# EAGLE library part CRAZYREMOTE_MKL26Z256VLH4 (library CrazyRemote)
16BIT MCU, CORTEX M0+, 48MHZ, 64QFP
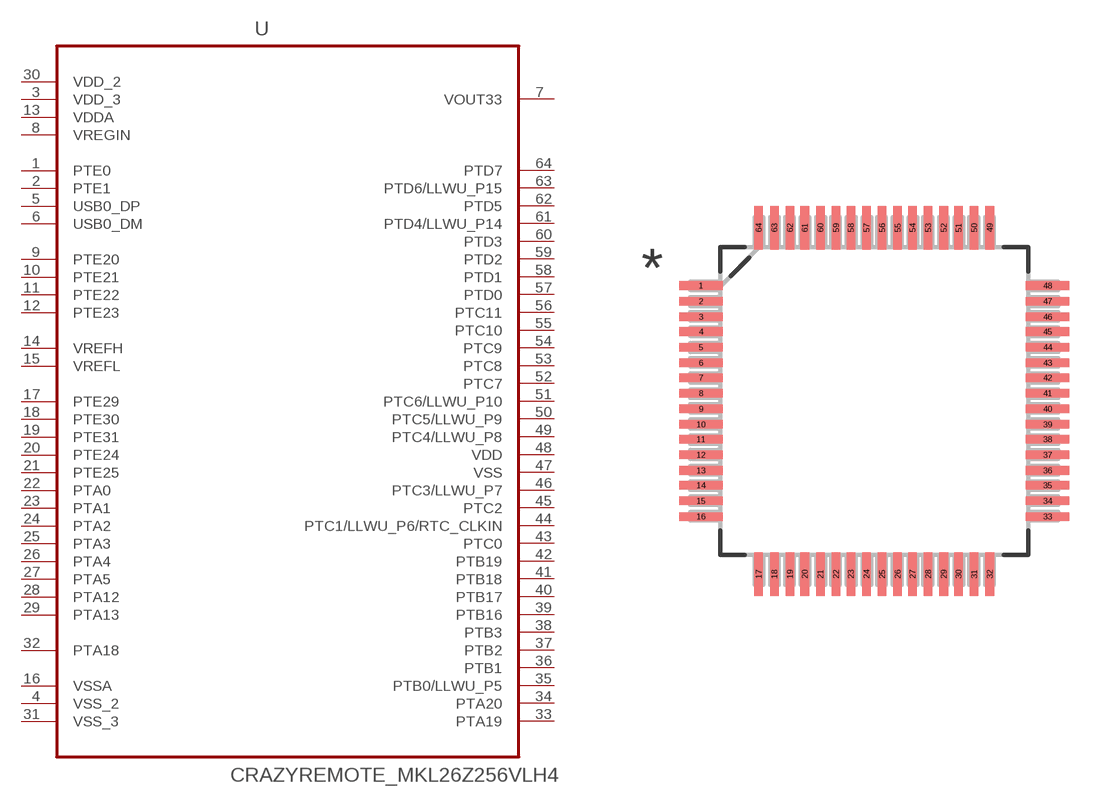
[diagram p4: symbol with the pads of CRAZYREMOTE_QFP50P1200X1200X160-64N; footprint CRAZYREMOTE_QFP50P1200X1200X160-64N]

Designator prefix U

## CRAZYREMOTE_MKL26Z256VLH4 (MPN: MKL26Z256VLH4; OC_FARNELL: 2360680; OC_NEWARK: 09X0214; PACKAGE: LQFP-64; SUPPLIER: FREESCALE SEMICONDUCTOR)  [CRAZYREMOTE_QFP50P1200X1200X160-64N]
1  PTE0
2  PTE1
3  VDD_3  pwr
4  VSS_2  pwr
5  USB0_DP  pas
6  USB0_DM  pas
7  VOUT33  out
8  VREGIN  pwr
9  PTE20
10  PTE21
11  PTE22
12  PTE23
13  VDDA  pwr
14  VREFH  pwr
15  VREFL  pwr
16  VSSA  pwr
17  PTE29
18  PTE30
19  PTE31
20  PTE24
21  PTE25
22  PTA0
23  PTA1
24  PTA2
25  PTA3
26  PTA4
27  PTA5
28  PTA12
29  PTA13
30  VDD_2  pwr
31  VSS_3  pwr
32  PTA18
33  PTA19
34  PTA20
35  PTB0/LLWU_P5
36  PTB1
37  PTB2
38  PTB3
39  PTB16
40  PTB17
41  PTB18
42  PTB19
43  PTC0
44  PTC1/LLWU_P6/RTC_CLKIN
45  PTC2
46  PTC3/LLWU_P7
47  VSS  pwr
48  VDD  pwr
49  PTC4/LLWU_P8
50  PTC5/LLWU_P9
51  PTC6/LLWU_P10
52  PTC7
53  PTC8
54  PTC9
55  PTC10
56  PTC11
57  PTD0
58  PTD1
59  PTD2
60  PTD3
61  PTD4/LLWU_P14
62  PTD5
63  PTD6/LLWU_P15
64  PTD7

## Footprint CRAZYREMOTE_QFP50P1200X1200X160-64N (pad centres in mm)
smd 1.422 x 0.279: 1 -5.639,3.759; 2 -5.639,3.251; 3 -5.639,2.743; 4 -5.639,2.261; 5 -5.639,1.753; 6 -5.639,1.245; 7 -5.639,0.762; 8 -5.639,0.254; 9 -5.639,-0.254; 10 -5.639,-0.762; 11 -5.639,-1.245; 12 -5.639,-1.753; 13 -5.639,-2.261; 14 -5.639,-2.743; 15 -5.639,-3.251; 16 -5.639,-3.759; 33 5.639,-3.759; 34 5.639,-3.251; 35 5.639,-2.743; 36 5.639,-2.261; 37 5.639,-1.753; 38 5.639,-1.245; 39 5.639,-0.762; 40 5.639,-0.254; 41 5.639,0.254; 42 5.639,0.762; 43 5.639,1.245; 44 5.639,1.753; 45 5.639,2.261; 46 5.639,2.743; 47 5.639,3.251; 48 5.639,3.759
smd 0.279 x 1.422: 17 -3.759,-5.639; 18 -3.251,-5.639; 19 -2.743,-5.639; 20 -2.261,-5.639; 21 -1.753,-5.639; 22 -1.245,-5.639; 23 -0.762,-5.639; 24 -0.254,-5.639; 25 0.254,-5.639; 26 0.762,-5.639; 27 1.245,-5.639; 28 1.753,-5.639; 29 2.261,-5.639; 30 2.743,-5.639; 31 3.251,-5.639; 32 3.759,-5.639; 49 3.759,5.639; 50 3.251,5.639; 51 2.743,5.639; 52 2.261,5.639; 53 1.753,5.639; 54 1.245,5.639; 55 0.762,5.639; 56 0.254,5.639; 57 -0.254,5.639; 58 -0.762,5.639; 59 -1.245,5.639; 60 -1.753,5.639; 61 -2.261,5.639; 62 -2.743,5.639; 63 -3.251,5.639; 64 -3.759,5.639